# Altium footprint library MicroSD.PcbLib: 2 footprints
Each footprint in its own frame and in the unit in brackets; x right, y up, seen from the top. Pads: shape width x height; smd on the part's side, far side on the other; paste and mask are expansions set on the pad; w line width, h text height; cw(c..) or ccw(c..) is an arc to the next point about the centre after c.
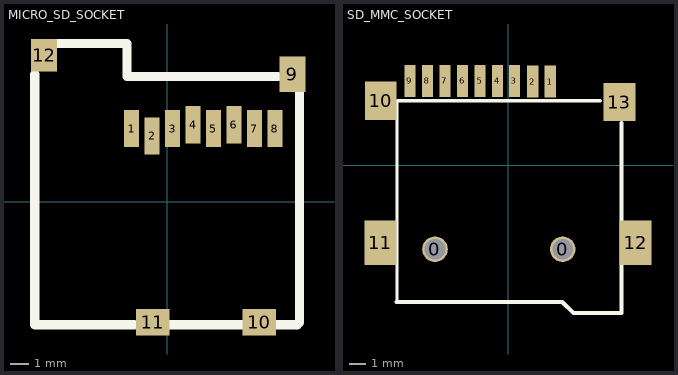
[diagram p0: the footprints below, top view; thin cyan lines are the x and y axes]

## MICRO_SD_SOCKET [mm]
pads (12):
  rect 0.8x2 smd: 1(-1.905,3.937) 2(-0.805,3.537) 3(0.295,3.937) 4(1.395,4.137) 5(2.495,3.937) 6(3.595,4.137) 7(4.695,3.937) 8(5.795,3.937)
  rect 1.4x1.9 smd: 9(6.738,6.855)
  rect 1.8x1.4 smd: 10(4.953,-6.477) 11(-0.762,-6.477)
  rect 1.4x1.75 smd: 12(-6.604,7.874)
Top Overlay:
  lines w0.5: -7.105,6.855 -7.105,-6.607 -1.771,-6.607 ; -5.835,8.506 -2.152,8.506 -2.152,6.728 5.976,6.728 ; 0.134,-6.607 4.071,-6.607 ; 5.849,-6.607 6.992,-6.607 ; 7.119,-6.48 7.119,5.839
Mechanical 1:
  lines w0.5: 6.992,-6.607 7.119,-6.48

## SD_MMC_SOCKET [mm]
pads (15):
  round 1.6 hole 1.3: 0(-4.575,-5.275) 0(3.425,-5.275)
  rect 0.7x2 smd: 1(2.65,5.225) 2(1.55,5.225) 3(0.4,5.275) 4(-0.65,5.275) 5(-1.75,5.275) 6(-2.85,5.275) 7(-3.95,5.275) 8(-5.05,5.275) 9(-6.15,5.275)
  rect 2x2.4 smd: 10(-7.975,4.025) 13(6.975,3.95)
  rect 2x2.8 smd: 11(-8,-4.875) 12(8,-4.875)
Top Overlay:
  lines w0.2: -6.958,-8.575 -6.958,4.025 5.8,4.025
  lines w0.254: -7,-8.575 3.4,-8.575 4.1,-9.275 4.85,-9.275 ; 4.875,-9.275 7.025,-9.275 ; 7.1,-9.275 7.1,2.625